# Altium schematic symbol library LedSMD.SchLib: 1 symbol
Pins are listed as number, name and electrical type; pins without a type are passive.

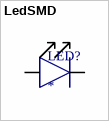
[diagram p0: symbol LedSMD]

## LedSMD
designator LED?
Discrete Led SMD 1205 Green; Digi-Key Part Number: 160-1169-1-ND
footprint SMD1206
pins: 1, 2